# Altium schematic symbol library clock.SchLib: 23 symbols
Pins are listed as number, name and electrical type; pins without a type are passive.

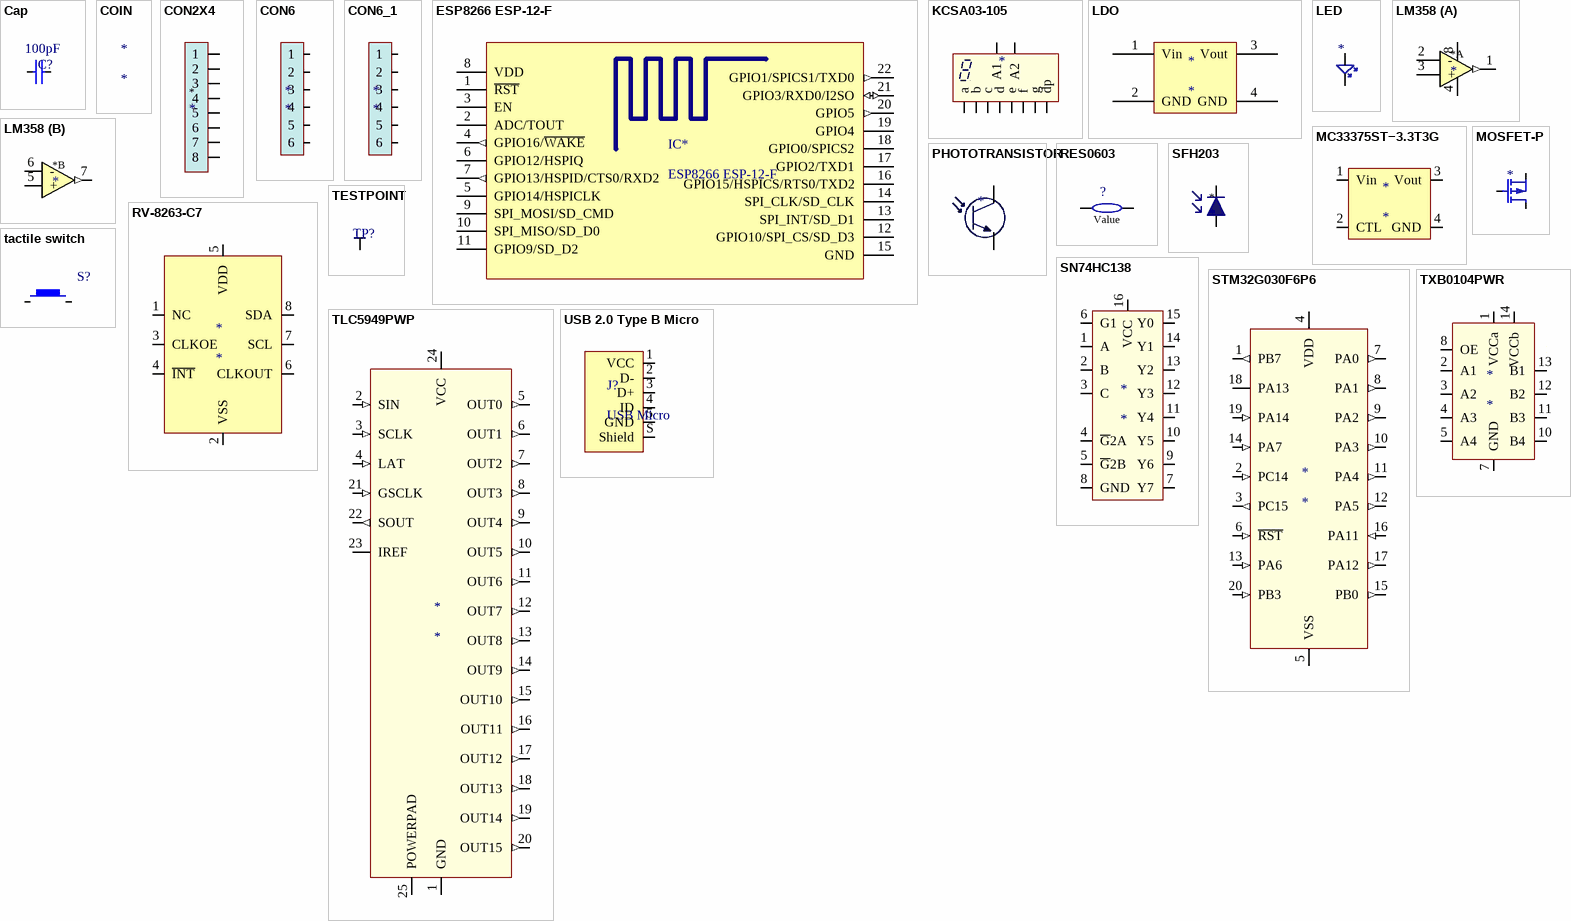
[diagram p0: symbols Cap to USB 2.0 Type B Micro]

## Cap
designator C?  value 100pF  (hidden comment: Cap)
Capacitor; Published: 8-Jun-2000; LatestRevisionDate: 17-Jul-2002; LatestRevisionNote: Re-released for DXP Platform.; PackageReference: RAD-0.3; Publisher: Altium Limited; PackageDescription: Radial Cap, Thru-Hole; 2 Leads; 0.3 in Pin Spacing
footprint CAPC_1206_3216X16L (Chip Capacitor 1206)
footprint CAPC_0603_1608X08L (Chip Capacitor 0603)
footprint CAPC3224X25L (Chip Capacitor, 2-Leads, Body 3.20x2.45mm, IPC High Density)
pins: 1, 2

## COIN
designator *
footprint QUARTER_COIN

## CON2X4
designator *  (no BOM)
Header 4 way
footprint CON2X4 (1.27 4 x 2)
pins: 1 "TP", 2 "TP", 3 "TP", 4 "TP", 5 "TP", 6 "TP", 7 "TP", 8 "TP"

## CON6
designator *  (no BOM)
Debug header 6 way
footprint CON2X3 (2x3 2.54mm)
pins: 1, 2, 3, 4, 5, 6

## CON6_1
designator *  (no BOM)
Debug header 6 way
footprint CON2X3 (2x3 2.54mm)
pins: 1, 2, 3, 4, 5, 6

## ESP8266 ESP-12-F
designator IC*
footprint ESP8266 ESP-12-E
pins: 1 ~{RST} "Reset", 2 ADC/TOUT "ADC Input Or TOUT Output", 3 EN "Chip enable", 4 GPIO16/~{WAKE} (out) "GPIO16 or Deep-Sleep Wakeup", 5 GPIO14/HSPICLK (oe) "GPIO14 or SPI CLK", 6 GPIO12/HSPIQ (oe) "GPIO12 or SPIQ", 7 GPIO13/HSPID/CTS0/RXD2 (out) "GPIO13 or SPID", 8 VDD "Power supply", 9 SPI_MOSI/SD_CMD "GPIO14 or SPI CLK", 10 SPI_MISO/SD_D0 "GPIO12 or SPIQ", 11 GPIO9/SD_D2 "GPIO13 or SPID", 12 GPIO10/SPI_CS/SD_D3 "GPIO15 or SPICS", 13 SPI_INT/SD_D1 "GPIO2 or TX", 14 SPI_CLK/SD_CLK "GPIO0 or SPICS2", 15 GND "Power ground", 16 GPIO15/HSPICS/RTS0/TXD2 (oe) "GPIO15 or SPICS", 17 GPIO2/TXD1 (oc) "GPIO2 or TX", 18 GPIO0/SPICS2 (oc) "GPIO0 or SPICS2", 19 GPIO4 (oe) "GPIO5", 20 GPIO5 (out) "GPIO4", 21 GPIO3/RXD0/I2SO (io) "GPIO3 or UART RXD or I2SO", 22 GPIO1/SPICS1/TXD0 (out) "GPIO1 or UART TXD"

## KCSA03-105
designator *  (value not drawn)
Low profile 7 segment digit
footprint KCSA03105
pins: 1 e, 2 d, 3 A1, 4 c, 5 dp, 6 b, 7 a, 8 A2, 9 f, 10 g

## LDO
designator *
LDO Voltage Regulator
footprint SOT230P700X180-4N (SOT223, 4-Leads, Body 6.50x7.00mm (avg), Pitch 2.30mm, IPC Medium Density)
pins: 1 Vin, 2 GND, 3 Vout, 4 GND

## LED
designator *  (value not drawn)
Red 0603 SMD LED
footprint LED_0402
footprint 0603 Chip SMD LED (LED 0603)
pins: 1 A, 2 C

## LM358
designator *
Dual opamp
footprint SOP127P600X175-8N (SOP, 8-Leads, Body 4.90x3.90mm, Pitch 1.27mm, IPC Medium Density)
footprint TSOP65P640X120-8L (TSOP, 8-Leads, Body 3.00x4.40mm, Pitch 0.65mm, IPC High Density)
part A pins: 1 OUTPUT1 (out) "TP", 2 - "TP", 3 + "TP", 4 GND "TP", 8 VCC "TP"
part B pins: 5 + "TP", 6 - "TP", 7 OUTPUT1 (out) "TP"

## MC33375ST−3.3T3G
designator *
3.3v LDO
footprint SOT230P700X180-4N (SOT223, 4-Leads, Body 6.50x7.00mm (avg), Pitch 2.30mm, IPC Medium Density)
pins: 1 Vin, 2 CTL, 3 Vout, 4 GND

## MOSFET-P
designator *  (value not drawn)
P channel mosfet 1.2A
footprint DFN65P101X53-3L (DFN, 3-Leads, Body 0.61x1.01mm, Pitch 0.65mm, IPC High Density)
footprint SOT95P230X110-3L (SOT23, 3-Leads, Body 2.90x2.30mm, Pitch 0.95mm, IPC High Density)
pins: 1 G, 2 S, 3 D

## PHOTOTRANSISTOR
designator *  (value not drawn)
Photo transistor
footprint ALS-PT19-315C (Phototransistor 3216)
footprint ALS-PDIC144-6C/L378 (Through hole phototransistor 3mm hat)
pins: 1 COLLECTOR (power), 2 EMITTER (power)

## RES0603
designator ?  (value not drawn)
Chip Resistor; Value: Value
footprint RESC1608X03L (Chip Resistor, 2-Leads, Body 1.60x0.80mm, IPC High Density)
pins: 1, 2

## RV-8263-C7
designator *
footprint RV-8263-C7
pins: 1 NC, 2 VSS (power), 3 CLKOE (in), 4 ~{INT} (out), 5 VDD (power), 6 CLKOUT (out), 7 SCL (oe), 8 SDA (oe)

## SFH203
designator *
Photodiode
footprint SFH-203
footprint BP 104 S
pins: 1 CATHODE "TP", 2 ANODE "TP"

## SN74HC138
designator *
3 -> 8 demux
footprint TSOP65P640X110-16L (TSOP, 16-Leads, Body 5.00x4.40mm, Pitch 0.65mm, IPC High Density)
pins: 1 A (in), 2 B (in), 3 C (in), 4 ~{G}2A (in), 5 ~{G}2B (in), 6 G1 (in), 7 Y7 (out), 8 GND (power), 9 Y6 (out), 10 Y5 (out), 11 Y4 (out), 12 Y3 (out), 13 Y2 (out), 14 Y1 (out), 15 Y0 (out), 16 VCC (power)

## STM32G030F6P6
designator *
MCU 64MHz tssop20
footprint TSOP65P630X120-20L (TSOP, 20-Leads, Body 6.45x4.30mm, Pitch 0.65mm, IPC High Density)
pins: 1 PB7 (out), 2 PC14 (in), 3 PC15 (out), 4 VDD (power), 5 VSS (power), 6 ~{RST} (in), 7 PA0 (out), 8 PA1 (out), 9 PA2 (out), 10 PA3 (out), 11 PA4 (out), 12 PA5 (out), 13 PA6 (in), 14 PA7 (in), 15 PB0 (out), 16 PA11 (in), 17 PA12 (out), 18 PA13 (io), 19 PA14 (in), 20 PB3 (in)

## tactile switch
designator S?, comment 4-1437565-1  (value not drawn)
6x6mm SMD tactile switch,SPST-NO; Manufacturer_Name: TE Connectivity; Allied_Number: R1117787; RS Part Number: 1616046; Manufacturer_Part_Number: 4-1437565-1; Datasheet Link: http://uk.rs-online.com/web/p/products/1616046
footprint FSM-SWITCH
footprint EVQP7C01P (Side actuated tactile switch)
pins: 1, 2

## TESTPOINT
designator TP?  (value not drawn)  (no BOM)
footprint TESTPOINT_BIG (fatter)
footprint TESTPOINT_GND (GND)
pins: 1 EMITTER (power)

## TLC5949PWP
designator *
16 channel cc sink led driver
footprint TSOP65P640X120-24L - POWERPAD (TSOP, 24-Leads, Body 7.80x4.40mm, Pitch 0.65mm, IPC High Density)
pins: 1 GND (power), 2 SIN (in), 3 SCLK (in), 4 LAT (in), 5 OUT0 (out), 6 OUT1 (out), 7 OUT2 (out), 8 OUT3 (out), 9 OUT4 (out), 10 OUT5 (out), 11 OUT6 (out), 12 OUT7 (out), 13 OUT8 (out), 14 OUT9 (out), 15 OUT10 (out), 16 OUT11 (out), 17 OUT12 (out), 18 OUT13 (out), 19 OUT14 (out), 20 OUT15 (out), 21 GSCLK (in), 22 SOUT (out), 23 IREF (oc), 24 VCC (power), 25 POWERPAD (power)

## TXB0104PWR
designator *
4 channel level shifter
footprint TSOP65P640X120-14L (TSOP, 14-Leads, Body 5.00x4.40mm, Pitch 0.65mm, IPC High Density)
pins: 1 VCCa (power), 2 A1 (in), 3 A2 (in), 4 A3 (in), 5 A4 (in), 6 NC, 7 GND (power), 8 OE (in), 9 NC, 10 B4 (out), 11 B3 (out), 12 B2 (out), 13 B1 (out), 14 VCCb (power)

## USB 2.0 Type B Micro
designator J?, comment USB Micro
USB 2.0 Type B Micro vertical SMT
footprint USB Micro B
footprint USB 1051330011 (USB Micro B Right Angle SMT 1051330011)
pins: 1 VCC, 2 D-, 3 D+, 4 ID, 5 GND, S Shield